# EAGLE library part MC3X063A (library usb)
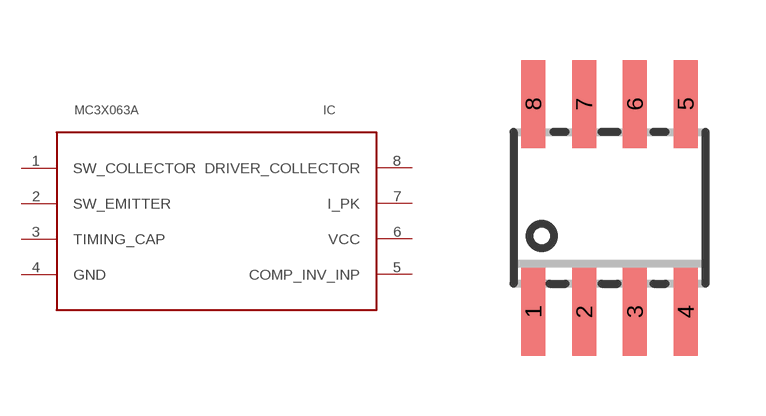
[diagram p5: symbol with the pads of SO08; footprint SO08]

Designator prefix IC

## MC3X063A  [SO08]
1  SW_COLLECTOR
2  SW_EMITTER
3  TIMING_CAP
4  GND
5  COMP_INV_INP
6  VCC
7  I_PK
8  DRIVER_COLLECTOR

## Footprint SO08 (pad centres in mm)
SMALL OUTLINE INTEGRATED CIRCUIT body 3.9 mm/JEDEC MS-012AA
smd 0.6 x 2.2: 1 -1.905,-2.6; 2 -0.635,-2.6; 3 0.635,-2.6; 4 1.905,-2.6; 5 1.905,2.6; 6 0.635,2.6; 7 -0.635,2.6; 8 -1.905,2.6